# EAGLE library part CON_7 (library baiyun)
Connector: 7 pins
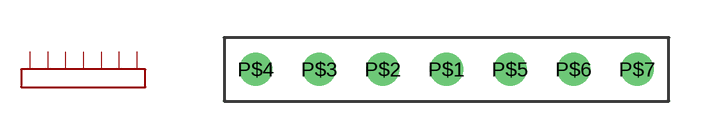
[diagram p196: symbol with the pads of CON_7; footprint CON_7]

Designator prefix -

## CON_7  [CON_7]
P$1  P$1
P$2  P$2
P$3  P$3
P$4  P$4
P$5  P$5
P$6  P$6
P$7  P$7

## Footprint CON_7 (pad centres in mm)
drill 0.813 round: P$1 0,0; P$2 -2.54,0; P$3 -5.08,0; P$4 -7.62,0; P$5 2.54,0; P$6 5.08,0; P$7 7.62,0